# EAGLE library part BNX00X (library lib_stankus)
Murata BNX00X filter Farnell #9526943 (BNX002-01)
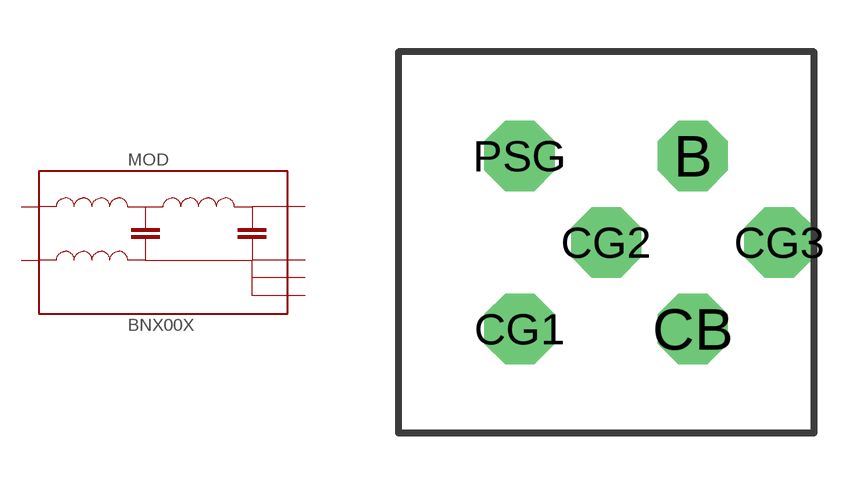
[diagram p72: symbol with the pads of BNX00X; footprint BNX00X]

Designator prefix MOD

## BNX00X  [BNX00X]
B  B  pas
CB  CB  pas
CG1  CG1  pas
CG2  CG2  pas
CG3  CG3  pas
PSG  PSG  pas

## Footprint BNX00X (pad centres in mm)
BNX00X
drill 1.1 pad 2.032 octagon: B 2.5,2.5; CB 2.5,-2.5; CG1 -2.5,-2.5; CG2 0,0; CG3 5,0; PSG -2.5,2.5